# Altium schematic symbol library QUA.SchLib: 4 symbols
Pins are listed as number, name and electrical type; pins without a type are passive.

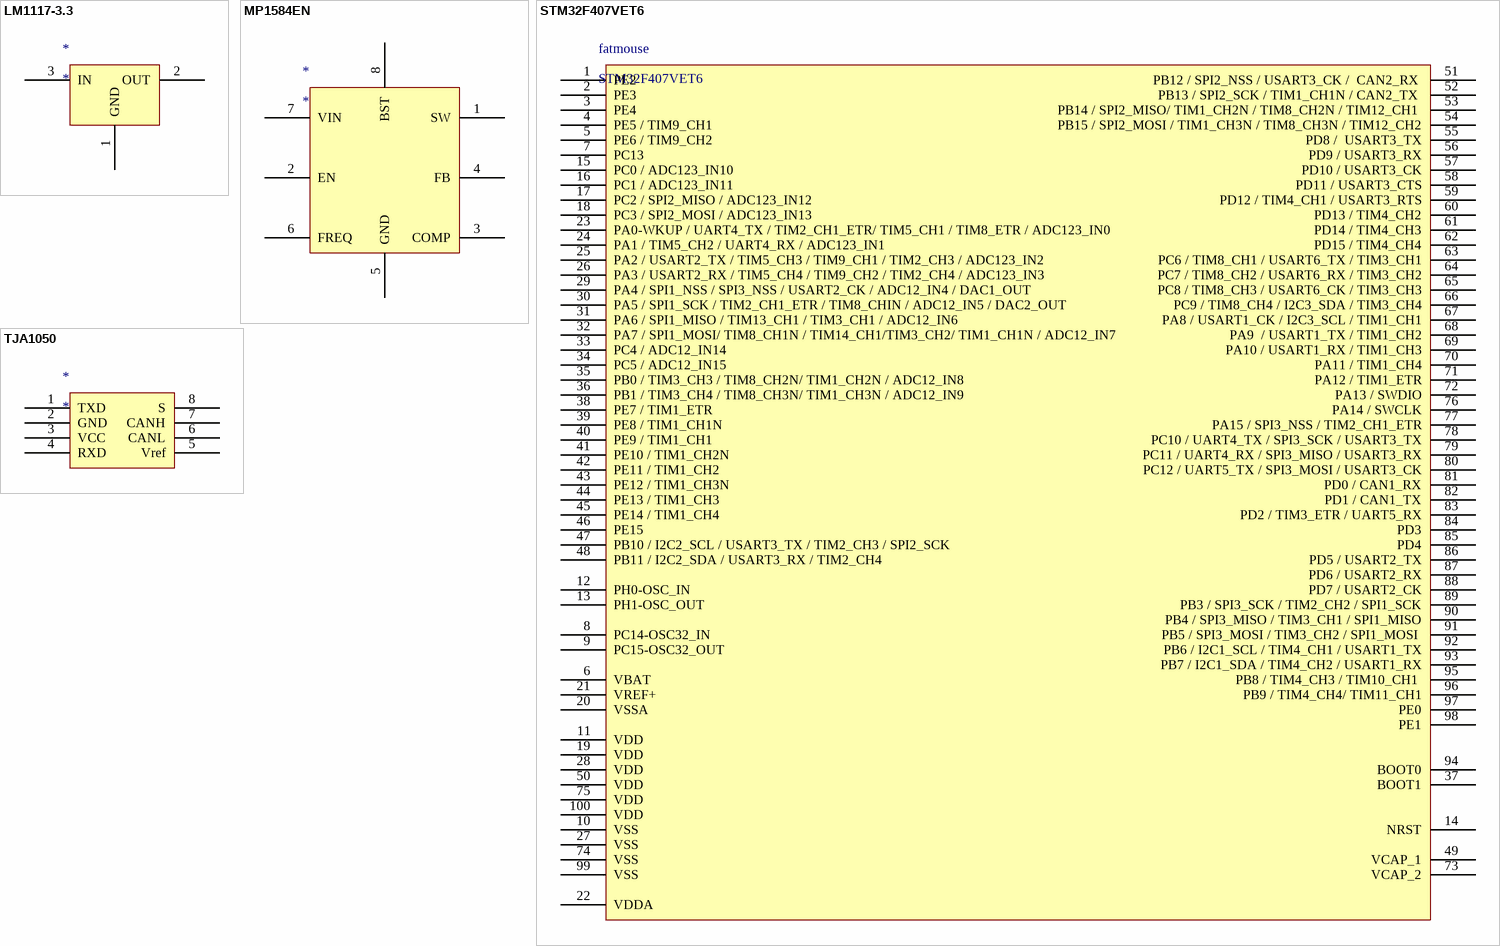
[diagram p0: symbols LM1117-3.3 to TJA1050]

## LM1117-3.3
designator *
pins: 1 GND, 2 OUT, 3 IN

## MP1584EN
designator *
pins: 1 SW, 2 EN, 3 COMP, 4 FB, 5 GND, 6 FREQ, 7 VIN, 8 BST

## STM32F407VET6
designator fatmouse
footprint LQFP-100
pins: 1 PE2, 2 PE3, 3 PE4, 4 PE5 / TIM9_CH1, 5 PE6 / TIM9_CH2, 6 VBAT, 7 PC13, 8 PC14-OSC32_IN, 9 PC15-OSC32_OUT, 10 VSS, 11 VDD, 12 PH0-OSC_IN, 13 PH1-OSC_OUT, 14 NRST, 15 PC0 / ADC123_IN10, 16 PC1 / ADC123_IN11, 17 PC2 / SPI2_MISO / ADC123_IN12, 18 PC3 / SPI2_MOSI / ADC123_IN13, 19 VDD, 20 VSSA, 21 VREF+, 22 VDDA, 23 PA0-WKUP / UART4_TX / TIM2_CH1_ETR/ TIM5_CH1 / TIM8_ETR / ADC123_IN0, 24 PA1 / TIM5_CH2 / UART4_RX / ADC123_IN1, 25 PA2 / USART2_TX / TIM5_CH3 / TIM9_CH1 / TIM2_CH3 / ADC123_IN2, 26 PA3 / USART2_RX / TIM5_CH4 / TIM9_CH2 / TIM2_CH4 / ADC123_IN3  , 27 VSS, 28 VDD, 29 PA4 / SPI1_NSS / SPI3_NSS / USART2_CK / ADC12_IN4 / DAC1_OUT  , 30 PA5 / SPI1_SCK / TIM2_CH1_ETR / TIM8_CHIN / ADC12_IN5 / DAC2_OUT, 31 PA6 / SPI1_MISO / TIM13_CH1 / TIM3_CH1 / ADC12_IN6  , 32 PA7 / SPI1_MOSI/ TIM8_CH1N / TIM14_CH1/TIM3_CH2/ TIM1_CH1N / ADC12_IN7, 33 PC4 / ADC12_IN14, 34 PC5 / ADC12_IN15, 35 PB0 / TIM3_CH3 / TIM8_CH2N/ TIM1_CH2N / ADC12_IN8, 36 PB1 / TIM3_CH4 / TIM8_CH3N/ TIM1_CH3N / ADC12_IN9, 37 BOOT1, 38 PE7 / TIM1_ETR, 39 PE8 / TIM1_CH1N, 40 PE9 / TIM1_CH1, 41 PE10 / TIM1_CH2N, 42 PE11 / TIM1_CH2, 43 PE12 / TIM1_CH3N, 44 PE13 / TIM1_CH3, 45 PE14 / TIM1_CH4, 46 PE15, 47 PB10 / I2C2_SCL / USART3_TX / TIM2_CH3 / SPI2_SCK, 48 PB11 / I2C2_SDA / USART3_RX / TIM2_CH4, 49 VCAP_1, 50 VDD, 51 PB12 / SPI2_NSS / USART3_CK /  CAN2_RX , 52 PB13 / SPI2_SCK / TIM1_CH1N / CAN2_TX , 53 PB14 / SPI2_MISO/ TIM1_CH2N / TIM8_CH2N / TIM12_CH1 , 54 PB15 / SPI2_MOSI / TIM1_CH3N / TIM8_CH3N / TIM12_CH2, 55 PD8 /  USART3_TX, 56 PD9 / USART3_RX, 57 PD10 / USART3_CK, 58 PD11 / USART3_CTS, 59 PD12 / TIM4_CH1 / USART3_RTS, 60 PD13 / TIM4_CH2, 61 PD14 / TIM4_CH3, 62 PD15 / TIM4_CH4, 63 PC6 / TIM8_CH1 / USART6_TX / TIM3_CH1, 64 PC7 / TIM8_CH2 / USART6_RX / TIM3_CH2, 65 PC8 / TIM8_CH3 / USART6_CK / TIM3_CH3, 66 PC9 / TIM8_CH4 / I2C3_SDA / TIM3_CH4, 67 PA8 / USART1_CK / I2C3_SCL / TIM1_CH1, 68 PA9  / USART1_TX / TIM1_CH2, 69 PA10 / USART1_RX / TIM1_CH3, 70 PA11 / TIM1_CH4, 71 PA12 / TIM1_ETR, 72 PA13 / SWDIO, 73 VCAP_2, 74 VSS, 75 VDD, 76 PA14 / SWCLK, 77 PA15 / SPI3_NSS / TIM2_CH1_ETR, 78 PC10 / UART4_TX / SPI3_SCK / USART3_TX, 79 PC11 / UART4_RX / SPI3_MISO / USART3_RX, 80 PC12 / UART5_TX / SPI3_MOSI / USART3_CK, 81 PD0 / CAN1_RX, 82 PD1 / CAN1_TX, 83 PD2 / TIM3_ETR / UART5_RX, 84 PD3, 85 PD4, 86 PD5 / USART2_TX, 87 PD6 / USART2_RX, 88 PD7 / USART2_CK, 89 PB3 / SPI3_SCK / TIM2_CH2 / SPI1_SCK, 90 PB4 / SPI3_MISO / TIM3_CH1 / SPI1_MISO, 91 PB5 / SPI3_MOSI / TIM3_CH2 / SPI1_MOSI , 92 PB6 / I2C1_SCL / TIM4_CH1 / USART1_TX, 93 PB7 / I2C1_SDA / TIM4_CH2 / USART1_RX, 94 BOOT0, 95 PB8 / TIM4_CH3 / TIM10_CH1 , 96 PB9 / TIM4_CH4/ TIM11_CH1, 97 PE0, 98 PE1, 99 VSS, 100 VDD

## TJA1050
designator *
pins: 1 TXD, 2 GND, 3 VCC, 4 RXD, 5 Vref, 6 CANL, 7 CANH, 8 S